# Altium footprint library Разное_discrete.PcbLib: 51 footprints (part 2 of 4)
Each footprint in its own frame and in the unit in brackets; x right, y up, seen from the top. Pads: shape width x height; smd on the part's side, far side on the other; paste and mask are expansions set on the pad; w line width, h text height; cw(c..) or ccw(c..) is an arc to the next point about the centre after c.
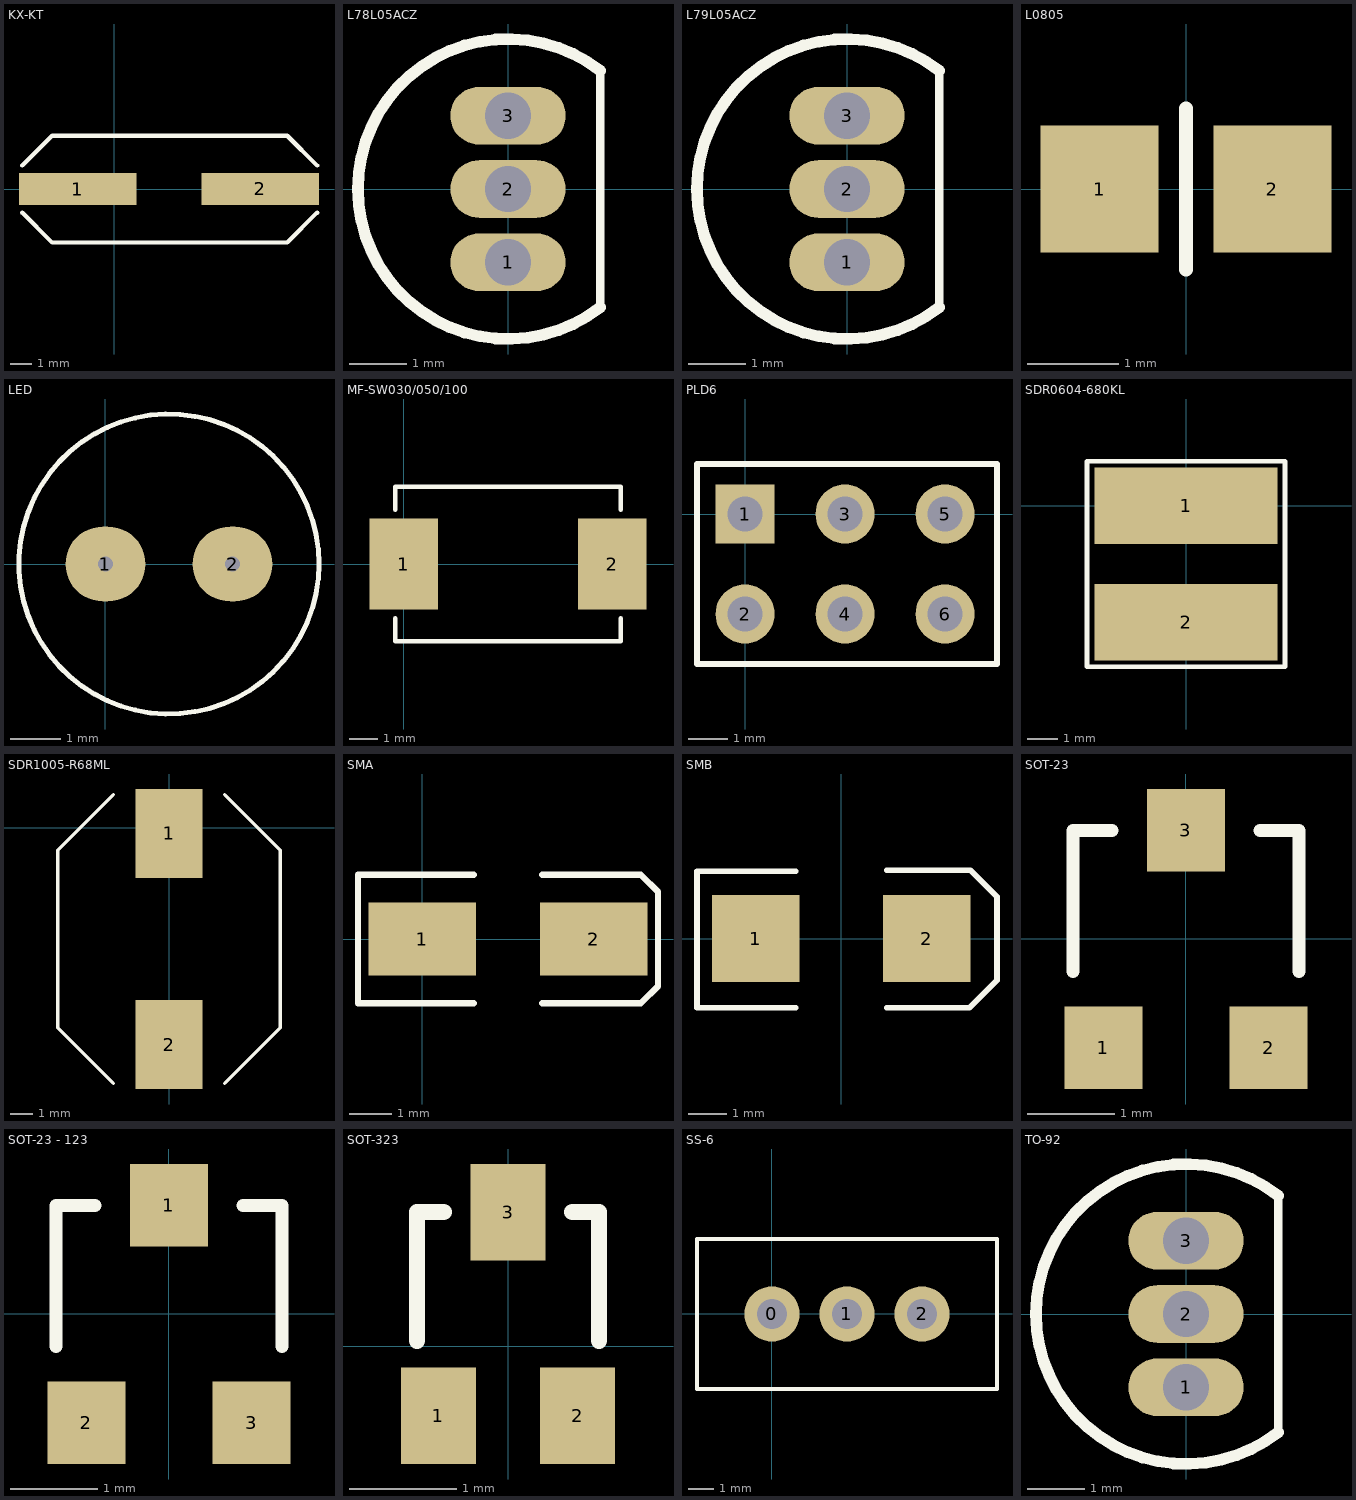
[diagram p1: the footprints below, top view; thin cyan lines are the x and y axes]

## KX-KT [mm]
pads (2):
  rect 5.5x1.5 smd: 1(-1.7,0) 2(6.837,0.011)
Top Overlay:
  lines w0.2: -4.3,-1.1 -2.9,-2.5 -1.5,-2.5 -0.5,-2.5 8.1,-2.5 9.5,-1.1 ; -4.3,1.1 -2.9,2.5 -2.7,2.5 8.1,2.5 9.5,1.1
3D body: height 1.47, standoff -4.13, extent -3.048,-2.336 8.124,2.336

## L78L05ACZ [mm] "стабилизатор"
height 5.33
pads (3):
  oval 2x1 hole 0.8: 1(0,-1.27) 2(0,0) 3(0,1.27)
Top Overlay:
  lines w0.15: 1.6,-1.99 1.6,1.99
  lines w0.2: 1.601,-2.049 cw(c0,0) 1.601,2.049
3D body: height 10.31, standoff -5.8, extent -3.048,-3.152 1.762,3.048

## L79L05ACZ [mm] "стабилизатор"
height 5.33
pads (3):
  oval 2x1 hole 0.8: 1(0,-1.27) 2(0,0) 3(0,1.27)
Top Overlay:
  lines w0.15: 1.6,-1.99 1.6,1.99
  lines w0.2: 1.601,-2.049 cw(c0,0) 1.601,2.049
3D body: height 10.31, standoff -5.8, extent -3.048,-3.152 1.762,3.048

## L0805 [mm] "Чип резистор; Размер 2 x 1.3 мм (Д x Ш)"
height 0.6
pads (2):
  rect 1.3x1.4 smd: 1(-0.95,0) 2(0.95,0)
Top Overlay:
  lines w0.15: 0,-0.889 0,0.889
3D body: height 0.78, standoff 0, extent -1,-0.635 1,0.615

## LED [mm]
height 13
pads (2):
  oval 1.6x1.5 hole 0.3: 1(0,0) 2(2.54,0)
Top Overlay:
  circle w0.1: c1.27,0 r3

## MF-SW030/050/100 [mm]
height 0.7
pads (2):
  rect 2.4x3.2 smd: 1(0,0) 2(7.3,0)
Top Overlay:
  lines w0.15: -0.3,-1.9 -0.3,-2.7 7.6,-2.7 7.6,-1.9 ; -0.3,1.9 -0.3,2.7 7.6,2.7 7.6,1.9
3D body: height 3.2, standoff 0, extent -0.35,-2.75 7.65,2.75

## PLD6 [mm]
pads (6):
  rect 1.5x1.5 hole 0.9: 1(0,0)
  round 1.5 hole 0.9: 2(0,-2.54) 3(2.54,0) 4(2.54,-2.54) 5(5.08,0) 6(5.08,-2.54)
Top Overlay:
  lines w0.15: 6.35,-3.81 -1.22,-3.81 -1.22,1.27 6.35,1.27 ; 6.4,-3.81 6.4,1.27
3D body: height 10, standoff 0.1, extent -1.27,-3.81 6.35,1.27

## SDR0604-680KL [mm] "Дросель СМД"
height 4.6
pads (2):
  rect 6x2.5 smd: 1(0,0) 2(0,-3.81)
Top Overlay:
  lines w0.15: -3.238,-5.271 3.238,-5.271 3.238,-1.333 3.238,1.46 -3.238,1.46 -3.238,-5.271
3D body: height 4.3, standoff 0, extent -2.748,-4.65 2.73,0.84

## SDR1005-R68ML [mm] "Дросель СМД"
height 4.6
pads (2):
  rect 3x4 smd: 1(0,-0.25) 2(0,-9.75)
Top Overlay:
  lines w0.15: -2.5,-11.5 -5,-9 -5,-5 -5,-1 -2.5,1.5 ; 2.5,-11.5 5,-9 5,-5 5,-1 2.5,1.5
3D body: height 5, standoff 0, extent -4.98,-9.98 4.98,0

## SMA [mm]
height 2.54
pads (2):
  rect 2.5x1.7 smd: 1(0,0) 2(4,0)
Top Overlay:
  lines w0.15: 1.2,-1.5 -1.5,-1.5 -1.5,1.5 1.2,1.5 ; 2.8,-1.5 5.1,-1.5 5.5,-1.1 5.5,1.1 5.1,1.5 2.8,1.5

## SMB [mm] "DO-214-AA/SMB; 2 C-Bend Leads; Body 5.3 x 3.6 mm, inc. leads (LxW)"
height 2.54
pads (2):
  rect 2.3x2.3 smd: 1(-2.25,0) 2(2.25,0)
Top Overlay:
  lines w0.15: -1.2,-1.825 -3.8,-1.825 -3.8,1.775 -1.2,1.775 ; 1.2,-1.825 3.375,-1.825 4.1,-1.1 4.1,1.1 3.4,1.8 1.2,1.8
3D body: height 2.5, standoff 0.2, extent -2.573,-1.822 2.827,1.778

## SOT-23 [mm] "SOT-23; 3 Leads; Body 3.0 x 2.6 mm, inc. leads (LxW max)"
height 1.1
pads (3):
  rect 0.9x0.95 smd: 1(-0.95,-1.25) 2(0.95,-1.25) 3(0,1.25)
Top Overlay:
  lines w0.15: -1.3,-0.375 -1.3,1.25 -0.85,1.25 ; 0.85,1.25 1.3,1.25 1.3,-0.375
3D body: height 1.05, standoff -0.05, extent -1.5,-1.27 1.5,1.23

## SOT-23 - 123 [mm] "SOT-23; 3 Leads; Body 3.0 x 2.6 mm, inc. leads (LxW max)"
height 1.1
pads (3):
  rect 0.9x0.95 smd: 1(0,1.25) 2(-0.95,-1.25) 3(0.95,-1.25)
Top Overlay:
  lines w0.15: -1.3,-0.375 -1.3,1.25 -0.85,1.25 ; 0.85,1.25 1.3,1.25 1.3,-0.375
3D body: height 1.05, standoff -0.05, extent -1.5,-1.27 1.5,1.23

## SOT-323 [mm]
height 1.1
pads (3):
  rect 0.7x0.9 smd: 1(-0.65,-0.65) 2(0.65,-0.65) 3(0,1.25)
Top Overlay:
  lines w0.15: -0.85,0.05 -0.85,1.25 -0.6,1.25 ; 0.6,1.25 0.85,1.25 0.85,0.05
3D body: height 1, standoff 0, extent -0.85,-0.1 0.85,0.7

## SS-6 [mm]
height 10
pads (3):
  round 2.2 hole 1.2: 0(0,0) 1(3,0) 2(6,0)
Top Overlay:
  lines w0.15: -3,-3 9,-3 9,3 -3,3 -3,-3
3D body: height 9.5, standoff 5.5, extent -1.25,-1.5 1.75,1.5
3D body: height 4, standoff -4, extent 5.5,-0.25 6.5,0.25
3D body: height 4, standoff -4, extent 2.5,-0.25 3.5,0.25
3D body: height 4, standoff -4, extent -0.5,-0.25 0.5,0.25
3D body: height 5.5, standoff 0.1, extent -3,-3 9,3

## TO-92 [mm] "TO, Flat Index; 3 In-Line, Axial Leads; Body Dia. 5.1mm; Leads 0.48 x 0.48 mm (max)"
height 5.33
pads (3):
  oval 2x1 hole 0.8: 1(0,-1.27) 2(0,0) 3(0,1.27)
Top Overlay:
  lines w0.15: 1.6,-1.99 1.6,1.99
  lines w0.2: 1.601,-2.049 cw(c0,0) 1.601,2.049
3D body: height 10.31, standoff -5.8, extent -3.048,-3.152 1.762,3.048